# EAGLE library part MKL26Z128VFM4 (library SparkFun-IC-Microcontroller)
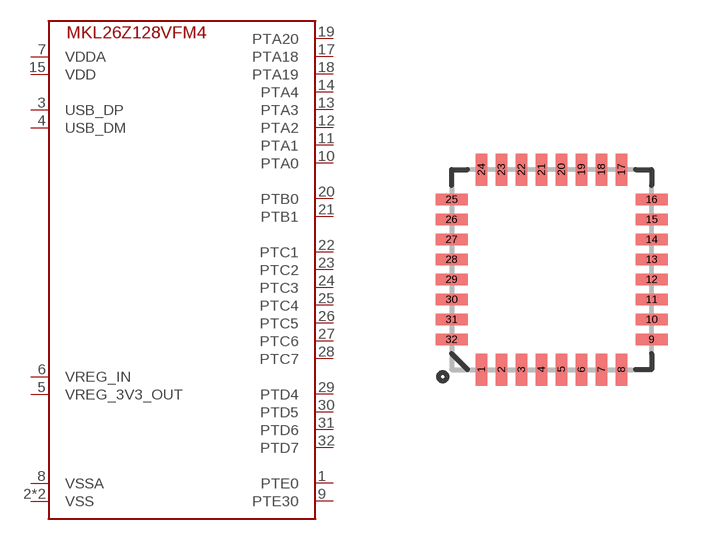
[diagram p38: symbol with the pads of QFN-32-NOPAD; footprint QFN-32-NOPAD]

Designator prefix -

## MKL26Z128VFM4 (PROD_ID: IC-15168)  [QFN-32-NOPAD]
1  PTE0
2  VSS
3  USB_DP
4  USB_DM
5  VREG_3V3_OUT
6  VREG_IN
7  VDDA
8  VSSA
9  PTE30
10  PTA0
11  PTA1
12  PTA2
13  PTA3
14  PTA4
15  VDD
16  VSS
17  PTA18
18  PTA19
19  PTA20
20  PTB0
21  PTB1
22  PTC1
23  PTC2
24  PTC3
25  PTC4
26  PTC5
27  PTC6
28  PTC7
29  PTD4
30  PTD5
31  PTD6
32  PTD7

## Footprint QFN-32-NOPAD (pad centres in mm)
QFN 32-Pin package w/ Thermal Pad ***Unproven*** Applicable Parts: TLC5940
smd 0.285 x 0.8: 1 -1.75,-2.5; 2 -1.25,-2.5; 3 -0.75,-2.5; 4 -0.25,-2.5; 5 0.25,-2.5; 6 0.75,-2.5; 7 1.25,-2.5; 8 1.75,-2.5; 17 1.75,2.5; 18 1.25,2.5; 19 0.75,2.5; 20 0.25,2.5; 21 -0.25,2.5; 22 -0.75,2.5; 23 -1.25,2.5; 24 -1.75,2.5
smd 0.8 x 0.285: 9 2.5,-1.75; 10 2.5,-1.25; 11 2.5,-0.75; 12 2.5,-0.25; 13 2.5,0.25; 14 2.5,0.75; 15 2.5,1.25; 16 2.5,1.75; 25 -2.5,1.75; 26 -2.5,1.25; 27 -2.5,0.75; 28 -2.5,0.25; 29 -2.5,-0.25; 30 -2.5,-0.75; 31 -2.5,-1.25; 32 -2.5,-1.75